# Altium footprint library SM_SD53-3R3-R_PowerInductor.PcbLib: 1 footprints
Each footprint in its own frame and in the unit in brackets; x right, y up, seen from the top. Pads: shape width x height; smd on the part's side, far side on the other; paste and mask are expansions set on the pad; w line width, h text height; cw(c..) or ccw(c..) is an arc to the next point about the centre after c.
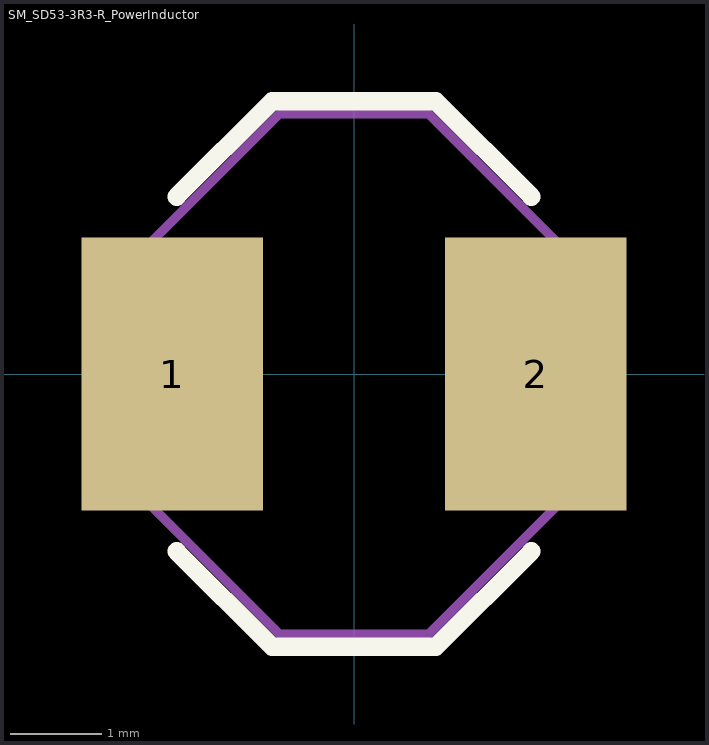
[diagram p0: the footprint, top view; thin cyan lines are the x and y axes]

## SM_SD53-3R3-R_PowerInductor [mm]
height 3
pads (2):
  rect 2x3 smd: 1(-2,0) 2(2,0)
Top Overlay:
  lines w0.2: -1.95,-1.95 -0.9,-3 0.9,-3 1.95,-1.95 ; -1.95,1.95 -0.9,3 0.9,3 1.95,1.95
Mechanical 1:
  lines w0.1: -2.86,-0.82 -0.82,-2.86 0.82,-2.86 2.86,-0.82 2.86,0.82 0.82,2.86 -0.82,2.86 -2.86,0.82 -2.86,-0.82
3D body: height 3, standoff 0.5, extent -2.86,-2.86 2.86,2.86